# EAGLE library part LM2904 (library IC, LM2904)
LM2904: Dual opamp (National Semiconductor) ±15V, ±10 mA, 250nA bias 10mV offset, 500kHz UGF ___ References: - PDF datasheet <http://elektronik.aei.uni-hannover.de:3000/datasheets/opamps/opamps/lm2904.pdf> (electronics workshop server) - Manufacturer's link <http://www.ti.com/product/lm2904> (Texas Instruments website) - Internet search <http://www.google.de/search?q=lm2904> (Google results) _____ Supported SPICE subcircuits: LM2904 Check prices <https://pricing.snapeda.com/parts/LM2904/Texas%20Instruments/view-part?ref=eda>
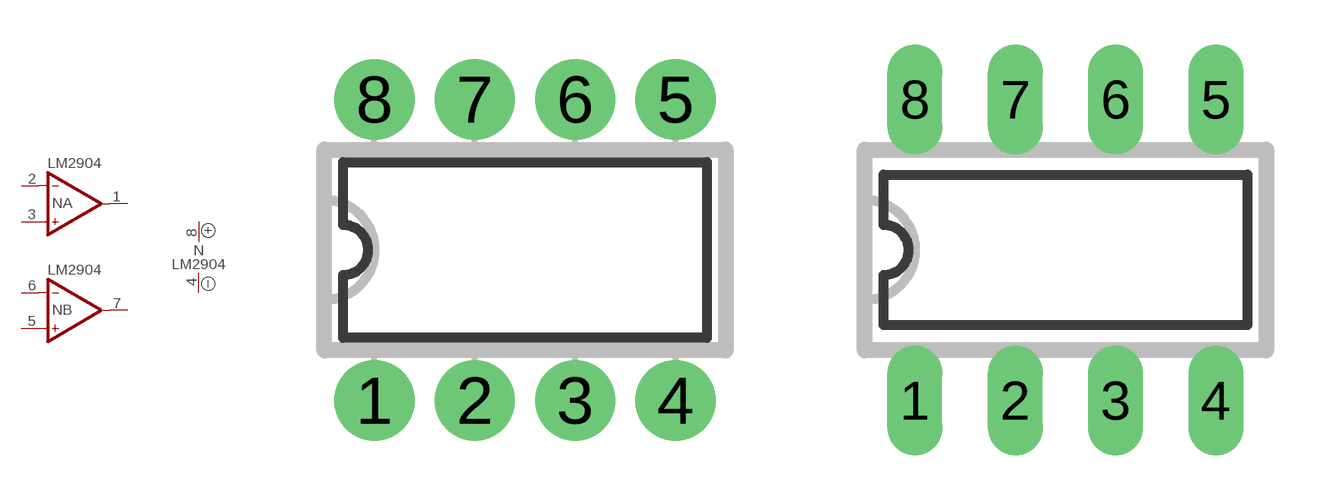
[diagram p0: symbol with the pads of DIP08N; footprints DIP08N, DIP08L]

Designator prefix N; gates P=V+- A=OP-NAME B=OP-NAME

## LM2904N (Availability: In Stock; Description: General Purpose Amplifier 2 Circuit - 8-SOIC; MF: Texas Instruments; MP: LM2904; Package: None; Price: None; Purchase-URL: https://pricing.snapeda.com/search/part/LM2904/?ref=eda)  [DIP08N]
1  A:OUT  out
2  A:IN-  in
3  A:IN+  in
4  P:V-  pwr
5  B:IN+  in
6  B:IN-  in
7  B:OUT  out
8  P:V+  pwr

## LM2904L (Availability: In Stock; Description: General Purpose Amplifier 2 Circuit - 8-SOIC; MF: Texas Instruments; MP: LM2904; Package: None; Price: None; Purchase-URL: https://pricing.snapeda.com/search/part/LM2904/?ref=eda)  [DIP08L]
Pads as for DIP08N

## LM2904R (Availability: In Stock; Description: General Purpose Amplifier 2 Circuit - 8-SOIC; MF: Texas Instruments; MP: LM2904; Package: None; Price: None; Purchase-URL: https://pricing.snapeda.com/search/part/LM2904/?ref=eda)  [DIP08R]
Pads as for DIP08N

## LM2904S (Availability: In Stock; Description: General Purpose Amplifier 2 Circuit - 8-SOIC; MF: Texas Instruments; MP: LM2904; Package: None; Price: None; Purchase-URL: https://pricing.snapeda.com/search/part/LM2904/?ref=eda)  [SO08]
Pads as for DIP08N

## LM2904 (Availability: In Stock; Description: General Purpose Amplifier 2 Circuit - 8-SOIC; MF: Texas Instruments; MP: LM2904; Package: None; Price: None; Purchase-URL: https://pricing.snapeda.com/search/part/LM2904/?ref=eda)  [DIP08L]
Pads as for DIP08N

## Footprint DIP08N (pad centres in mm)
DIP-8 IC package, 8 pins, 0.3" width
drill 0.813 pad 2.032: 1 -3.81,-3.81; 2 -1.27,-3.81; 3 1.27,-3.81; 4 3.81,-3.81; 5 3.81,3.81; 6 1.27,3.81; 7 -1.27,3.81; 8 -3.81,3.81

## Footprint DIP08L (pad centres in mm)
DIP-8, long pads IC package, 8 pins, 0.3" width
drill 0.813 pad 1.397 long: 1 -3.81,-3.81; 2 -1.27,-3.81; 3 1.27,-3.81; 4 3.81,-3.81; 5 3.81,3.81; 6 1.27,3.81; 7 -1.27,3.81; 8 -3.81,3.81

## Footprint DIP08R (pad centres in mm)
DIP-8, reduced pads IC package, 8 pins, 0.3" width
drill 0.813 pad 1.397 square: 1 -3.81,-3.81; 2 -1.27,-3.81; 3 1.27,-3.81; 4 3.81,-3.81; 5 3.81,3.81; 6 1.27,3.81; 7 -1.27,3.81; 8 -3.81,3.81

## Footprint SO08 (pad centres in mm)
SO-8, SMD SOIC IC package, 8 pins, 0.15" width
smd 0.635 x 1.778: 1 -1.905,-2.857; 2 -0.635,-2.857; 3 0.635,-2.857; 4 1.905,-2.857; 5 1.905,2.857; 6 0.635,2.857; 7 -0.635,2.857; 8 -1.905,2.857